# Altium footprint library diy-modules.PCBLIB: 111 footprints (part 3 of 7)
Each footprint in its own frame and in the unit in brackets; x right, y up, seen from the top. Pads: shape width x height; smd on the part's side, far side on the other; paste and mask are expansions set on the pad; w line width, h text height; cw(c..) or ccw(c..) is an arc to the next point about the centre after c.
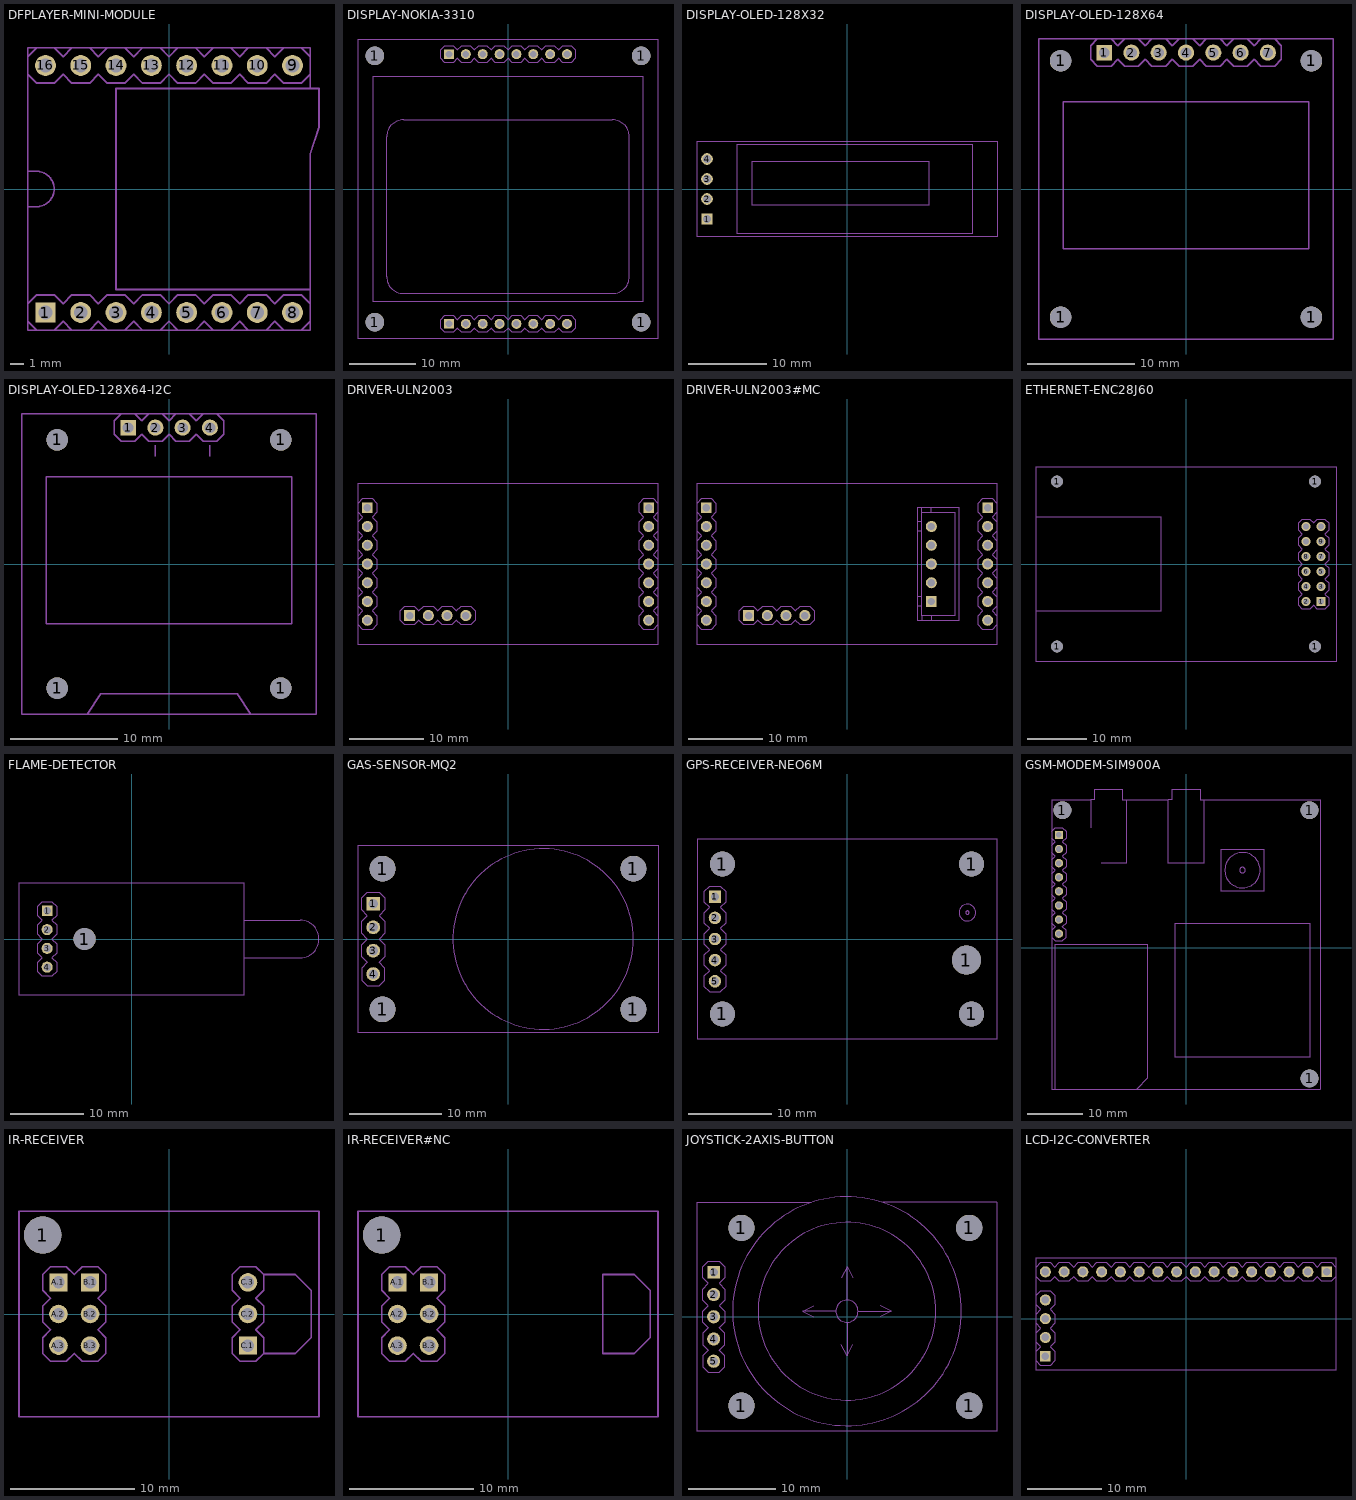
[diagram p2: the footprints below, top view; thin cyan lines are the x and y axes]

## DFPLAYER-MINI-MODULE [mm]
pads (16):
  rect 1.452x1.452 / inner rect 1.524x1.524 / far side rect 1.452x1.452 hole 1: 1(-8.89,-8.89)
  round 1.5 / inner round 1.524 / far side round 1.5 hole 1: 2(-6.35,-8.89) 3(-3.81,-8.89) 4(-1.27,-8.89) 5(1.27,-8.89) 6(3.81,-8.89) 7(6.35,-8.89) 8(8.89,-8.89) 9(8.89,8.89) 10(6.35,8.89) 11(3.81,8.89) 12(1.27,8.89) 13(-1.27,8.89) 14(-3.81,8.89) 15(-6.35,8.89) 16(-8.89,8.89)
Mechanical 22:
  lines w0.127: -10.16,8.255 -9.525,7.62 -8.255,7.62 -7.62,8.255 -6.985,7.62 -5.715,7.62 -5.08,8.255 -4.445,7.62 -3.175,7.62 -2.54,8.255 -1.905,7.62 -0.635,7.62 0,8.255 0.635,7.62 1.905,7.62 2.54,8.255 3.175,7.62 4.445,7.62 5.08,8.255 5.715,7.62 6.985,7.62 7.62,8.255 8.255,7.62 9.525,7.62 10.16,8.255 ; -10.16,9.525 -9.525,10.16 ; -8.255,-10.16 -7.62,-9.525 -6.985,-10.16 ; -8.255,10.16 -7.62,9.525 -6.985,10.16 ; -5.715,-10.16 -5.08,-9.525 -4.445,-10.16 ; -5.715,10.16 -5.08,9.525 -4.445,10.16 ; -3.175,10.16 -2.54,9.525 -1.905,10.16 ; -1.905,-10.16 -2.54,-9.525 -3.175,-10.16 ; -0.635,10.16 0,9.525 0.635,10.16 ; 0.635,-10.16 0,-9.525 -0.635,-10.16 ; 1.905,-10.16 2.54,-9.525 3.175,-10.16 ; 1.905,10.16 2.54,9.525 3.175,10.16 ; 4.445,-10.16 5.08,-9.525 5.715,-10.16 ; 4.445,10.16 5.08,9.525 5.715,10.16 ; 6.985,-10.16 7.62,-9.525 8.255,-10.16 ; 6.985,10.16 7.62,9.525 8.255,10.16 ; 9.525,-10.16 10.16,-9.525 ; 9.525,10.16 10.16,9.525 ; 10.16,-8.255 9.525,-7.62 8.255,-7.62 7.62,-8.255 6.985,-7.62 5.715,-7.62 5.08,-8.255 4.445,-7.62 3.175,-7.62 2.54,-8.255 1.905,-7.62 0.635,-7.62 0,-8.255 -0.635,-7.62 -1.905,-7.62 -2.54,-8.255 -3.175,-7.62 -4.445,-7.62 -5.08,-8.255 -5.715,-7.62 -6.985,-7.62 -7.62,-8.255 -8.255,-7.62 -9.525,-7.62 -10.16,-8.255 ; -10.16,-9.525 -10.16,-8.255 ; -10.16,-9.525 -10.16,-10.16 -9.525,-10.16 ; -10.16,-9.525 -9.525,-10.16 ; -10.16,-8.255 -10.16,-1.27 ; -10.16,-1.27 -10.16,1.27 ; -10.16,-1.27 -9.525,-1.27 ccw(c-9.525,0) -9.525,1.27 -10.16,1.27 ; -10.16,1.27 -10.16,10.16 10.16,10.16 10.16,7.239 ; -9.525,-10.16 -3.175,-10.16 ; -3.175,-10.16 -0.635,-10.16 ; -0.635,-10.16 10.16,-10.16 10.16,-7.239 ; 10.16,-7.239 -3.81,-7.239 -3.81,7.239 10.16,7.239 ; 10.16,-7.239 10.16,2.54 10.795,4.445 10.795,7.239 10.16,7.239

## DISPLAY-NOKIA-3310 [mm]
pads (20):
  round 2.8 hole 2.8 unplated: 1(-20.066,-20.066) 1(-20.066,20.066) 1(20.066,-20.066) 1(20.066,20.066)
  rect 1.452x1.452 / inner rect 1.524x1.524 / far side rect 1.452x1.452 hole 1: J1.1(-8.89,-20.32) J2.1(-8.89,20.32)
  round 1.5 / inner round 1.524 / far side round 1.5 hole 1: J1.2(-6.35,-20.32) J1.3(-3.81,-20.32) J1.4(-1.27,-20.32) J1.5(1.27,-20.32) J1.6(3.81,-20.32) J1.7(6.35,-20.32) J1.8(8.89,-20.32) J2.2(-6.35,20.32) J2.3(-3.81,20.32) J2.4(-1.27,20.32) J2.5(1.27,20.32) J2.6(3.81,20.32) J2.7(6.35,20.32) J2.8(8.89,20.32)
Mechanical 22:
  lines w0.127: -22.606,-22.606 22.606,-22.606 22.606,22.606 -22.606,22.606 -22.606,-22.606 ; -20.32,-17.018 20.32,-17.018 20.32,17.018 -20.32,17.018 -20.32,-17.018 ; -18.288,-13.208 ccw(c-15.748,-13.208) -15.748,-15.748 15.748,-15.748 ccw(c15.748,-13.208) 18.288,-13.208 18.288,7.874 ccw(c15.748,7.874) 15.748,10.414 -15.748,10.414 ccw(c-15.748,7.874) -18.288,7.874 -18.288,-13.208 ; -10.16,-20.955 -9.525,-21.59 -8.255,-21.59 -7.62,-20.955 -6.985,-21.59 -5.715,-21.59 -5.08,-20.955 -4.445,-21.59 -3.175,-21.59 -2.54,-20.955 -1.905,-21.59 -0.635,-21.59 0,-20.955 0.635,-21.59 1.905,-21.59 2.54,-20.955 3.175,-21.59 4.445,-21.59 5.08,-20.955 5.715,-21.59 6.985,-21.59 7.62,-20.955 8.255,-21.59 9.525,-21.59 10.16,-20.955 10.16,-19.685 9.525,-19.05 8.255,-19.05 7.62,-19.685 6.985,-19.05 5.715,-19.05 5.08,-19.685 4.445,-19.05 3.175,-19.05 2.54,-19.685 1.905,-19.05 0.635,-19.05 0,-19.685 -0.635,-19.05 -1.905,-19.05 -2.54,-19.685 -3.175,-19.05 -4.445,-19.05 -5.08,-19.685 -5.715,-19.05 -6.985,-19.05 -7.62,-19.685 -8.255,-19.05 -9.525,-19.05 -10.16,-19.685 -10.16,-20.955 ; -10.16,19.685 -9.525,19.05 -8.255,19.05 -7.62,19.685 -6.985,19.05 -5.715,19.05 -5.08,19.685 -4.445,19.05 -3.175,19.05 -2.54,19.685 -1.905,19.05 -0.635,19.05 0,19.685 0.635,19.05 1.905,19.05 2.54,19.685 3.175,19.05 4.445,19.05 5.08,19.685 5.715,19.05 6.985,19.05 7.62,19.685 8.255,19.05 9.525,19.05 10.16,19.685 10.16,20.955 9.525,21.59 8.255,21.59 7.62,20.955 6.985,21.59 5.715,21.59 5.08,20.955 4.445,21.59 3.175,21.59 2.54,20.955 1.905,21.59 0.635,21.59 0,20.955 -0.635,21.59 -1.905,21.59 -2.54,20.955 -3.175,21.59 -4.445,21.59 -5.08,20.955 -5.715,21.59 -6.985,21.59 -7.62,20.955 -8.255,21.59 -9.525,21.59 -10.16,20.955 -10.16,19.685

## DISPLAY-OLED-128X32 [mm]
pads (4):
  rect 1.452x1.452 / inner rect 1.524x1.524 / far side rect 1.452x1.452 hole 1: 1(-17.78,-3.81)
  round 1.5 / inner round 1.524 / far side round 1.5 hole 1: 2(-17.78,-1.27) 3(-17.78,1.27) 4(-17.78,3.81)
Mechanical 22:
  lines w0.127: -19.05,-6.096 19.05,-6.096 19.05,6.096 -19.05,6.096 -19.05,-6.096 ; -13.97,-5.715 15.875,-5.715 15.875,5.715 -13.97,5.715 -13.97,-5.715 ; -12.065,-2.032 10.414,-2.032 10.414,3.556 -12.065,3.556 -12.065,-2.032

## DISPLAY-OLED-128X64 [mm]
pads (11):
  round 2 hole 2 unplated: 1(-11.684,-11.938) 1(-11.684,11.938) 1(11.684,-11.938) 1(11.684,11.938)
  rect 1.452x1.452 / inner rect 1.524x1.524 / far side rect 1.452x1.452 hole 1: 1(-7.62,12.7)
  round 1.5 / inner round 1.524 / far side round 1.5 hole 1: 2(-5.08,12.7) 3(-2.54,12.7) 4(0,12.7) 5(2.54,12.7) 6(5.08,12.7) 7(7.62,12.7)
Mechanical 22:
  lines w0.127: -8.255,13.97 -8.89,13.335 -8.89,12.065 -8.255,11.43 -6.985,11.43 -6.35,12.065 -5.715,11.43 -4.445,11.43 -3.81,12.065 -3.175,11.43 -1.905,11.43 -1.27,12.065 -0.635,11.43 0.635,11.43 1.27,12.065 1.905,11.43 3.175,11.43 3.81,12.065 4.445,11.43 5.715,11.43 6.35,12.065 6.985,11.43 8.255,11.43 8.89,12.065 8.89,13.335 8.255,13.97 ; -6.985,13.97 -6.35,13.335 -5.715,13.97 ; -4.445,13.97 -3.81,13.335 -3.175,13.97 ; -1.905,13.97 -1.27,13.335 -0.635,13.97 ; 0.635,13.97 1.27,13.335 1.905,13.97 ; 3.175,13.97 3.81,13.335 4.445,13.97 ; 5.715,13.97 6.35,13.335 6.985,13.97 ; -13.716,-13.97 13.716,-13.97 13.716,13.97 -13.716,13.97 -13.716,-13.97 ; -11.43,-5.588 11.43,-5.588 11.43,8.128 -11.43,8.128 -11.43,-5.588

## DISPLAY-OLED-128X64-I2C [mm]
pads (8):
  round 2 hole 2 unplated: 1(-10.414,-11.557) 1(-10.414,11.557) 1(10.414,-11.557) 1(10.414,11.557)
  rect 1.452x1.452 / inner rect 1.524x1.524 / far side rect 1.452x1.452 hole 1: 1(-3.81,12.7)
  round 1.5 / inner round 1.524 / far side round 1.5 hole 1: 2(-1.27,12.7) 3(1.27,12.7) 4(3.81,12.7)
Mechanical 22:
  lines w0.127: -4.445,13.97 -5.08,13.335 -5.08,12.065 -4.445,11.43 -3.175,11.43 -2.54,12.065 -1.905,11.43 -0.635,11.43 0,12.065 0.635,11.43 1.905,11.43 2.54,12.065 3.175,11.43 4.445,11.43 5.08,12.065 5.08,13.335 4.445,13.97 ; -3.175,13.97 -2.54,13.335 -1.905,13.97 ; -1.27,10.033 -1.27,11.049 ; -0.635,13.97 0,13.335 0.635,13.97 ; 1.905,13.97 2.54,13.335 3.175,13.97 ; 3.81,10.033 3.81,11.049 ; -7.62,-13.97 7.62,-13.97 ; -7.62,-13.97 -13.716,-13.97 -13.716,13.97 13.716,13.97 13.716,-13.97 7.62,-13.97 ; -7.62,-13.97 -6.35,-12.065 6.35,-12.065 7.62,-13.97 ; -11.43,-5.588 11.43,-5.588 11.43,8.128 -11.43,8.128 -11.43,-5.588

## DRIVER-ULN2003 [mm]
pads (18):
  rect 1.452x1.452 / inner rect 1.524x1.524 / far side rect 1.452x1.452 hole 1: J1.1(-19.05,7.62) J2.1(19.05,7.62) J3.1(-13.335,-6.985)
  round 1.5 / inner round 1.524 / far side round 1.5 hole 1: J1.2(-19.05,5.08) J1.3(-19.05,2.54) J1.4(-19.05,0) J1.5(-19.05,-2.54) J1.6(-19.05,-5.08) J1.7(-19.05,-7.62) J2.2(19.05,5.08) J2.3(19.05,2.54) J2.4(19.05,0) J2.5(19.05,-2.54) J2.6(19.05,-5.08) J2.7(19.05,-7.62) J3.2(-10.795,-6.985) J3.3(-8.255,-6.985) J3.4(-5.715,-6.985)
Mechanical 22:
  lines w0.127: -20.32,-8.255 -20.32,-10.922 20.32,-10.922 20.32,-8.255 ; -20.32,-8.255 -20.32,-6.985 ; -20.32,-8.255 -19.685,-8.89 -18.415,-8.89 -17.78,-8.255 -17.78,-6.985 -18.415,-6.35 -17.78,-5.715 -17.78,-4.445 -18.415,-3.81 -17.78,-3.175 -17.78,-1.905 -18.415,-1.27 -17.78,-0.635 -17.78,0.635 -18.415,1.27 -17.78,1.905 -17.78,3.175 -18.415,3.81 -17.78,4.445 -17.78,5.715 -18.415,6.35 -17.78,6.985 -17.78,8.255 -18.415,8.89 -19.685,8.89 -20.32,8.255 ; -20.32,-6.985 -20.32,-5.715 ; -20.32,-6.985 -19.685,-6.35 -20.32,-5.715 ; -20.32,-5.715 -20.32,-4.445 ; -20.32,-4.445 -20.32,-3.175 ; -20.32,-4.445 -19.685,-3.81 -20.32,-3.175 ; -20.32,-3.175 -20.32,-1.905 ; -20.32,-1.905 -20.32,-0.635 ; -20.32,-1.905 -19.685,-1.27 -20.32,-0.635 ; -20.32,-0.635 -20.32,0.635 ; -20.32,0.635 -20.32,1.905 ; -20.32,0.635 -19.685,1.27 -20.32,1.905 ; -20.32,1.905 -20.32,3.175 ; -20.32,3.175 -20.32,4.445 ; -20.32,3.175 -19.685,3.81 -20.32,4.445 ; -20.32,4.445 -20.32,5.715 ; -20.32,5.715 -20.32,6.985 ; -20.32,5.715 -19.685,6.35 -20.32,6.985 ; -20.32,6.985 -20.32,8.255 ; -20.32,8.255 -20.32,10.922 20.32,10.922 20.32,8.255 ; 20.32,-8.255 20.32,-6.985 ; 20.32,-8.255 19.685,-8.89 18.415,-8.89 17.78,-8.255 17.78,-6.985 18.415,-6.35 17.78,-5.715 17.78,-4.445 18.415,-3.81 17.78,-3.175 17.78,-1.905 18.415,-1.27 17.78,-0.635 17.78,0.635 18.415,1.27 17.78,1.905 17.78,3.175 18.415,3.81 17.78,4.445 17.78,5.715 18.415,6.35 17.78,6.985 17.78,8.255 18.415,8.89 19.685,8.89 20.32,8.255 ; 20.32,-6.985 20.32,-5.715 ; 20.32,-6.985 19.685,-6.35 20.32,-5.715 ; 20.32,-5.715 20.32,-4.445 ; 20.32,-4.445 20.32,-3.175 ; 20.32,-4.445 19.685,-3.81 20.32,-3.175 ; 20.32,-3.175 20.32,-1.905 ; 20.32,-1.905 20.32,-0.635 ; 20.32,-1.905 19.685,-1.27 20.32,-0.635 ; 20.32,-0.635 20.32,0.635 ; 20.32,0.635 20.32,1.905 ; 20.32,0.635 19.685,1.27 20.32,1.905 ; 20.32,1.905 20.32,3.175 ; 20.32,3.175 20.32,4.445 ; 20.32,3.175 19.685,3.81 20.32,4.445 ; 20.32,4.445 20.32,5.715 ; 20.32,5.715 20.32,6.985 ; 20.32,5.715 19.685,6.35 20.32,6.985 ; 20.32,6.985 20.32,8.255 ; -14.605,-7.62 -13.97,-8.255 -12.7,-8.255 -12.065,-7.62 -11.43,-8.255 -10.16,-8.255 -9.525,-7.62 -8.89,-8.255 -7.62,-8.255 -6.985,-7.62 -6.35,-8.255 -5.08,-8.255 -4.445,-7.62 -4.445,-6.35 -5.08,-5.715 -6.35,-5.715 -6.985,-6.35 -7.62,-5.715 -8.89,-5.715 -9.525,-6.35 -10.16,-5.715 -11.43,-5.715 -12.065,-6.35 -12.7,-5.715 -13.97,-5.715 -14.605,-6.35 -14.605,-7.62

## DRIVER-ULN2003#MC [mm]
pads (23):
  rect 1.452x1.452 / inner rect 1.524x1.524 / far side rect 1.452x1.452 hole 1: J1.1(-19.05,7.62) J2.1(19.05,7.62) J3.1(-13.335,-6.985) P3.1(11.43,-5.08)
  round 1.5 / inner round 1.524 / far side round 1.5 hole 1: J1.2(-19.05,5.08) J1.3(-19.05,2.54) J1.4(-19.05,0) J1.5(-19.05,-2.54) J1.6(-19.05,-5.08) J1.7(-19.05,-7.62) J2.2(19.05,5.08) J2.3(19.05,2.54) J2.4(19.05,0) J2.5(19.05,-2.54) J2.6(19.05,-5.08) J2.7(19.05,-7.62) J3.2(-10.795,-6.985) J3.3(-8.255,-6.985) J3.4(-5.715,-6.985) P3.2(11.43,-2.54) P3.3(11.43,0) P3.4(11.43,2.54) P3.5(11.43,5.08)
Mechanical 22:
  drawing of 162 lines, arcs and shapes, not listed

## ETHERNET-ENC28J60 [mm]
pads (16):
  round 2 hole 2 unplated: 1(-21.844,-13.97) 1(-21.844,13.97) 1(21.844,-13.97) 1(21.844,13.97)
  rect 1.452x1.452 / inner rect 1.524x1.524 / far side rect 1.452x1.452 hole 1: 1(22.86,-6.35)
  round 1.5 / inner round 1.524 / far side round 1.5 hole 1: 2(20.32,-6.35) 3(22.86,-3.81) 4(20.32,-3.81) 5(22.86,-1.27) 6(20.32,-1.27) 7(22.86,1.27) 8(20.32,1.27) 9(22.86,3.81) 10(20.32,3.81) 11(22.86,6.35) 12(20.32,6.35)
Mechanical 22:
  lines w0.127: -25.4,-8.001 -25.4,-16.51 25.4,-16.51 25.4,16.51 -25.4,16.51 -25.4,8.001 ; -25.4,-8.001 -25.4,8.001 ; -25.4,-8.001 -4.318,-8.001 -4.318,8.001 -25.4,8.001 ; 19.05,-6.985 19.685,-7.62 20.955,-7.62 21.59,-6.985 22.225,-7.62 23.495,-7.62 24.13,-6.985 24.13,-5.715 23.495,-5.08 24.13,-4.445 24.13,-3.175 23.495,-2.54 24.13,-1.905 24.13,-0.635 23.495,0 24.13,0.635 24.13,1.905 23.495,2.54 24.13,3.175 24.13,4.445 23.495,5.08 24.13,5.715 24.13,6.985 23.495,7.62 22.225,7.62 21.59,6.985 20.955,7.62 19.685,7.62 19.05,6.985 19.05,5.715 19.685,5.08 19.05,4.445 19.05,3.175 19.685,2.54 19.05,1.905 19.05,0.635 19.685,0 19.05,-0.635 19.05,-1.905 19.685,-2.54 19.05,-3.175 19.05,-4.445 19.685,-5.08 19.05,-5.715 19.05,-6.985

## FLAME-DETECTOR [mm]
pads (5):
  rect 1.452x1.452 / inner rect 1.524x1.524 / far side rect 1.452x1.452 hole 1: 1(-11.43,3.81)
  round 3 hole 3 unplated: 1(-6.35,0)
  round 1.5 / inner round 1.524 / far side round 1.5 hole 1: 2(-11.43,1.27) 3(-11.43,-1.27) 4(-11.43,-3.81)
Mechanical 22:
  lines w0.127: 15.24,-2.54 15.24,2.54 ; 15.24,-2.54 15.24,-7.62 -15.24,-7.62 -15.24,7.62 15.24,7.62 15.24,2.54 ; 15.24,-2.54 22.86,-2.54 ccw(c22.86,0) 22.86,2.54 15.24,2.54 ; -12.7,-4.445 -12.065,-5.08 -10.795,-5.08 -10.16,-4.445 -10.16,-3.175 -10.795,-2.54 -10.16,-1.905 -10.16,-0.635 -10.795,0 -10.16,0.635 -10.16,1.905 -10.795,2.54 -10.16,3.175 -10.16,4.445 -10.795,5.08 -12.065,5.08 -12.7,4.445 -12.7,3.175 -12.065,2.54 -12.7,1.905 -12.7,0.635 -12.065,0 -12.7,-0.635 -12.7,-1.905 -12.065,-2.54 -12.7,-3.175 -12.7,-4.445

## GAS-SENSOR-MQ2 [mm]
pads (8):
  rect 1.452x1.452 / inner rect 1.524x1.524 / far side rect 1.452x1.452 hole 1: 1(-14.605,3.81)
  round 2.8 hole 2.8 unplated: 1(-13.589,-7.62) 1(-13.589,7.62) 1(13.589,-7.62) 1(13.589,7.62)
  round 1.5 / inner round 1.524 / far side round 1.5 hole 1: 2(-14.605,1.27) 3(-14.605,-1.27) 4(-14.605,-3.81)
Mechanical 22:
  circle w0.127: c3.81,0 r9.779
  lines w0.127: -16.256,-10.16 16.256,-10.16 16.256,10.16 -16.256,10.16 -16.256,-10.16 ; -15.875,-4.445 -15.875,-3.175 -15.24,-2.54 -15.875,-1.905 -15.875,-0.635 -15.24,0 -15.875,0.635 -15.875,1.905 -15.24,2.54 -15.875,3.175 -15.875,4.445 -15.24,5.08 -13.97,5.08 -13.335,4.445 -13.335,3.175 -13.97,2.54 -13.335,1.905 -13.335,0.635 -13.97,0 -13.335,-0.635 -13.335,-1.905 -13.97,-2.54 -13.335,-3.175 -13.335,-4.445 -13.97,-5.08 -15.24,-5.08 -15.875,-4.445

## GPS-RECEIVER-NEO6M [mm]
pads (10):
  rect 1.452x1.452 / inner rect 1.524x1.524 / far side rect 1.452x1.452 hole 1: 1(-15.875,5.08)
  round 3 hole 3 unplated: 1(-14.986,-9.017) 1(-14.986,9.017) 1(14.986,-9.017) 1(14.986,9.017)
  round 3.5 hole 3.5 unplated: 1(14.351,-2.54)
  round 1.5 / inner round 1.524 / far side round 1.5 hole 1: 2(-15.875,2.54) 3(-15.875,0) 4(-15.875,-2.54) 5(-15.875,-5.08)
Mechanical 22:
  circle w0.127: c14.478,3.175 r1
  circle w0.127: c14.478,3.175 r0.2
  lines w0.127: -18.034,-12.065 18.034,-12.065 18.034,12.065 -18.034,12.065 -18.034,-12.065 ; -17.145,-5.715 -17.145,-4.445 -16.51,-3.81 -17.145,-3.175 -17.145,-1.905 -16.51,-1.27 -17.145,-0.635 -17.145,0.635 -16.51,1.27 -17.145,1.905 -17.145,3.175 -16.51,3.81 -17.145,4.445 -17.145,5.715 -16.51,6.35 -15.24,6.35 -14.605,5.715 -14.605,4.445 -15.24,3.81 -14.605,3.175 -14.605,1.905 -15.24,1.27 -14.605,0.635 -14.605,-0.635 -15.24,-1.27 -14.605,-1.905 -14.605,-3.175 -15.24,-3.81 -14.605,-4.445 -14.605,-5.715 -15.24,-6.35 -16.51,-6.35 -17.145,-5.715

## GSM-MODEM-SIM900A [mm]
pads (11):
  round 3.2 hole 3.2 unplated: 1(-22.225,24.765) 1(22.225,-23.495) 1(22.225,24.765)
  rect 1.452x1.452 / inner rect 1.524x1.524 / far side rect 1.452x1.452 hole 1: J1.1(-22.86,20.32)
  round 1.5 / inner round 1.524 / far side round 1.5 hole 1: J1.2(-22.86,17.78) J1.3(-22.86,15.24) J1.4(-22.86,12.7) J1.5(-22.86,10.16) J1.6(-22.86,7.62) J1.7(-22.86,5.08) J1.8(-22.86,2.54)
Mechanical 22:
  circle w0.127: c10.16,13.97 r3.175
  circle w0.127: c10.16,13.97 r0.508
  lines w0.127: -24.13,1.905 -23.495,1.27 -22.225,1.27 -21.59,1.905 -21.59,3.175 -22.225,3.81 -21.59,4.445 -21.59,5.715 -22.225,6.35 -21.59,6.985 -21.59,8.255 -22.225,8.89 -21.59,9.525 -21.59,10.795 -22.225,11.43 -21.59,12.065 -21.59,13.335 -22.225,13.97 -21.59,14.605 -21.59,15.875 -22.225,16.51 -21.59,17.145 -21.59,18.415 -22.225,19.05 -21.59,19.685 -21.59,20.955 -22.225,21.59 -23.495,21.59 -24.13,20.955 ; -24.13,3.175 -23.495,3.81 -24.13,4.445 ; -24.13,5.715 -23.495,6.35 -24.13,6.985 ; -24.13,8.255 -23.495,8.89 -24.13,9.525 ; -24.13,10.795 -23.495,11.43 -24.13,12.065 ; -24.13,13.335 -23.495,13.97 -24.13,14.605 ; -24.13,15.875 -23.495,16.51 -24.13,17.145 ; -24.13,18.415 -23.495,19.05 -24.13,19.685 ; -17.145,21.59 -17.145,26.67 ; -15.24,15.24 -10.795,15.24 -10.795,26.67 ; -23.495,-25.4 -24.13,-25.4 -24.13,26.67 -17.145,26.67 ; -23.495,-25.4 -8.89,-25.4 ; -23.495,-25.4 -23.495,0.635 -6.985,0.635 -6.985,-23.495 -8.89,-25.4 ; -17.145,26.67 -16.51,26.67 -16.51,28.575 -11.43,28.575 -11.43,26.67 -10.795,26.67 ; -10.795,26.67 -3.175,26.67 ; -8.89,-25.4 24.13,-25.4 24.13,26.67 3.175,26.67 ; -3.175,26.67 -3.175,15.24 3.175,15.24 3.175,26.67 ; -3.175,26.67 -2.54,26.67 -2.54,28.575 2.54,28.575 2.54,26.67 3.175,26.67 ; -1.905,-19.685 22.225,-19.685 22.225,4.445 -1.905,4.445 -1.905,-19.685 ; 6.35,10.16 13.97,10.16 13.97,17.78 6.35,17.78 6.35,10.16

## IR-RECEIVER [mm]
pads (10):
  round 3 hole 3 unplated: 1(-10.16,6.35)
  rect 1.452x1.452 / inner rect 1.524x1.524 / far side rect 1.452x1.452 hole 1: A.1(-8.89,2.54) B.1(-6.35,2.54) C.1(6.35,-2.54)
  round 1.5 / inner round 1.524 / far side round 1.5 hole 1: A.2(-8.89,0) A.3(-8.89,-2.54) B.2(-6.35,0) B.3(-6.35,-2.54) C.2(6.35,0) C.3(6.35,2.54)
Mechanical 22:
  lines w0.127: 7.62,-3.175 7.62,-1.905 6.985,-1.27 7.62,-0.635 7.62,0.635 6.985,1.27 7.62,1.905 7.62,3.175 ; 7.62,-3.175 6.985,-3.81 5.715,-3.81 5.08,-3.175 5.08,-1.905 5.715,-1.27 5.08,-0.635 5.08,0.635 5.715,1.27 5.08,1.905 5.08,3.175 5.715,3.81 6.985,3.81 7.62,3.175 ; 7.62,-3.175 10.16,-3.175 11.43,-1.905 11.43,1.905 10.16,3.175 7.62,3.175 ; -12.065,-8.255 12.065,-8.255 12.065,8.255 -12.065,8.255 -12.065,-8.255 ; -10.16,-3.175 -9.525,-3.81 -8.255,-3.81 -7.62,-3.175 -6.985,-3.81 -5.715,-3.81 -5.08,-3.175 -5.08,-1.905 -5.715,-1.27 -5.08,-0.635 -5.08,0.635 -5.715,1.27 -5.08,1.905 -5.08,3.175 -5.715,3.81 -6.985,3.81 -7.62,3.175 -8.255,3.81 -9.525,3.81 -10.16,3.175 -10.16,1.905 -9.525,1.27 -10.16,0.635 -10.16,-0.635 -9.525,-1.27 -10.16,-1.905 -10.16,-3.175

## IR-RECEIVER#NC [mm]
pads (7):
  round 3 hole 3 unplated: 1(-10.16,6.35)
  rect 1.452x1.452 / inner rect 1.524x1.524 / far side rect 1.452x1.452 hole 1: A.1(-8.89,2.54) B.1(-6.35,2.54)
  round 1.5 / inner round 1.524 / far side round 1.5 hole 1: A.2(-8.89,0) A.3(-8.89,-2.54) B.2(-6.35,0) B.3(-6.35,-2.54)
Mechanical 22:
  lines w0.127: -12.065,-8.255 12.065,-8.255 12.065,8.255 -12.065,8.255 -12.065,-8.255 ; -10.16,-3.175 -9.525,-3.81 -8.255,-3.81 -7.62,-3.175 -6.985,-3.81 -5.715,-3.81 -5.08,-3.175 -5.08,-1.905 -5.715,-1.27 -5.08,-0.635 -5.08,0.635 -5.715,1.27 -5.08,1.905 -5.08,3.175 -5.715,3.81 -6.985,3.81 -7.62,3.175 -8.255,3.81 -9.525,3.81 -10.16,3.175 -10.16,1.905 -9.525,1.27 -10.16,0.635 -10.16,-0.635 -9.525,-1.27 -10.16,-1.905 -10.16,-3.175 ; 7.62,-3.175 10.16,-3.175 11.43,-1.905 11.43,1.905 10.16,3.175 7.62,3.175 7.62,-3.175

## JOYSTICK-2AXIS-BUTTON [mm]
pads (9):
  rect 1.452x1.452 / inner rect 1.524x1.524 / far side rect 1.452x1.452 hole 1: 1(-15.24,5.08)
  round 3 hole 3 unplated: 1(-12.065,-10.16) 1(-12.065,10.16) 1(13.97,-10.16) 1(13.97,10.16)
  round 1.5 / inner round 1.524 / far side round 1.5 hole 1: 2(-15.24,2.54) 3(-15.24,0) 4(-15.24,-2.54) 5(-15.24,-5.08)
Mechanical 22:
  circle w0.127: c0,0.635 r13.081
  circle w0.127: c0,0.635 r10.16
  circle w0.127: c0,0.635 r1.27
  lines w0.127: -4.064,13.081 -17.145,13.081 -17.145,-13.081 17.145,-13.081 17.145,13.081 4.064,13.081 ; -3.81,0 -5.08,0.635 ; -3.81,1.27 -5.08,0.635 ; -1.27,0.635 -5.08,0.635 ; -0.635,-3.175 0,-4.445 ; -0.635,4.445 0,5.715 ; 0,-0.635 0,-4.445 ; 0,1.905 0,5.715 ; 0.635,-3.175 0,-4.445 ; 0.635,4.445 0,5.715 ; 1.27,0.635 5.08,0.635 ; 3.81,0 5.08,0.635 ; 3.81,1.27 5.08,0.635 ; -16.51,-5.715 -16.51,-4.445 -15.875,-3.81 -16.51,-3.175 -16.51,-1.905 -15.875,-1.27 -16.51,-0.635 -16.51,0.635 -15.875,1.27 -16.51,1.905 -16.51,3.175 -15.875,3.81 -16.51,4.445 -16.51,5.715 -15.875,6.35 -14.605,6.35 -13.97,5.715 -13.97,4.445 -14.605,3.81 -13.97,3.175 -13.97,1.905 -14.605,1.27 -13.97,0.635 -13.97,-0.635 -14.605,-1.27 -13.97,-1.905 -13.97,-3.175 -14.605,-3.81 -13.97,-4.445 -13.97,-5.715 -14.605,-6.35 -15.875,-6.35 -16.51,-5.715

## LCD-I2C-CONVERTER [mm]
pads (20):
  rect 1.452x1.452 / inner rect 1.524x1.524 / far side rect 1.452x1.452 hole 1: J1.1(-19.05,-5.08) J2.1(19.05,6.35)
  round 1.5 / inner round 1.524 / far side round 1.5 hole 1: J1.2(-19.05,-2.54) J1.3(-19.05,0) J1.4(-19.05,2.54) J2.2(16.51,6.35) J2.3(13.97,6.35) J2.4(11.43,6.35) J2.5(8.89,6.35) J2.6(6.35,6.35) J2.7(3.81,6.35) J2.8(1.27,6.35) J2.9(-1.27,6.35) J2.10(-3.81,6.35) J2.11(-6.35,6.35) J2.12(-8.89,6.35) J2.13(-11.43,6.35) J2.14(-13.97,6.35) J2.15(-16.51,6.35) J2.16(-19.05,6.35)
Mechanical 22:
  lines w0.127: -20.32,-5.715 -20.32,-6.985 20.32,-6.985 20.32,5.715 ; -20.32,-5.715 -20.32,-4.445 ; -20.32,-5.715 -19.685,-6.35 -18.415,-6.35 -17.78,-5.715 -17.78,-4.445 -18.415,-3.81 -17.78,-3.175 -17.78,-1.905 -18.415,-1.27 -17.78,-0.635 -17.78,0.635 -18.415,1.27 -17.78,1.905 -17.78,3.175 -18.415,3.81 -19.685,3.81 -20.32,3.175 ; -20.32,-4.445 -20.32,-3.175 ; -20.32,-4.445 -19.685,-3.81 -20.32,-3.175 ; -20.32,-3.175 -20.32,-1.905 ; -20.32,-1.905 -20.32,-0.635 ; -20.32,-1.905 -19.685,-1.27 -20.32,-0.635 ; -20.32,-0.635 -20.32,0.635 ; -20.32,0.635 -20.32,1.905 ; -20.32,0.635 -19.685,1.27 -20.32,1.905 ; -20.32,1.905 -20.32,3.175 ; -20.32,3.175 -20.32,5.715 ; -20.32,5.715 -20.32,6.985 ; -20.32,5.715 -19.685,5.08 -18.415,5.08 -17.78,5.715 -17.145,5.08 -15.875,5.08 -15.24,5.715 -14.605,5.08 -13.335,5.08 -12.7,5.715 -12.065,5.08 -10.795,5.08 -10.16,5.715 -9.525,5.08 -8.255,5.08 -7.62,5.715 -6.985,5.08 -5.715,5.08 -5.08,5.715 -4.445,5.08 -3.175,5.08 -2.54,5.715 -1.905,5.08 -0.635,5.08 0,5.715 0.635,5.08 1.905,5.08 2.54,5.715 3.175,5.08 4.445,5.08 5.08,5.715 5.715,5.08 6.985,5.08 7.62,5.715 8.255,5.08 9.525,5.08 10.16,5.715 10.795,5.08 12.065,5.08 12.7,5.715 13.335,5.08 14.605,5.08 15.24,5.715 15.875,5.08 17.145,5.08 17.78,5.715 18.415,5.08 19.685,5.08 20.32,5.715 ; -20.32,6.985 -20.32,8.255 20.32,8.255 20.32,6.985 ; -20.32,6.985 -19.685,7.62 -18.415,7.62 -17.78,6.985 -17.145,7.62 -15.875,7.62 -15.24,6.985 -14.605,7.62 -13.335,7.62 -12.7,6.985 -12.065,7.62 -10.795,7.62 -10.16,6.985 -9.525,7.62 -8.255,7.62 -7.62,6.985 -6.985,7.62 -5.715,7.62 -5.08,6.985 -4.445,7.62 -3.175,7.62 -2.54,6.985 -1.905,7.62 -0.635,7.62 0,6.985 0.635,7.62 1.905,7.62 2.54,6.985 3.175,7.62 4.445,7.62 5.08,6.985 5.715,7.62 6.985,7.62 7.62,6.985 8.255,7.62 9.525,7.62 10.16,6.985 10.795,7.62 12.065,7.62 12.7,6.985 13.335,7.62 14.605,7.62 15.24,6.985 15.875,7.62 17.145,7.62 17.78,6.985 18.415,7.62 19.685,7.62 20.32,6.985 ; 20.32,5.715 20.32,6.985